# Altium footprint library FC.PcbLib: 20 footprints (part 1 of 2)
Each footprint in its own frame and in the unit in brackets; x right, y up, seen from the top. Pads: shape width x height; smd on the part's side, far side on the other; paste and mask are expansions set on the pad; w line width, h text height; cw(c..) or ccw(c..) is an arc to the next point about the centre after c.
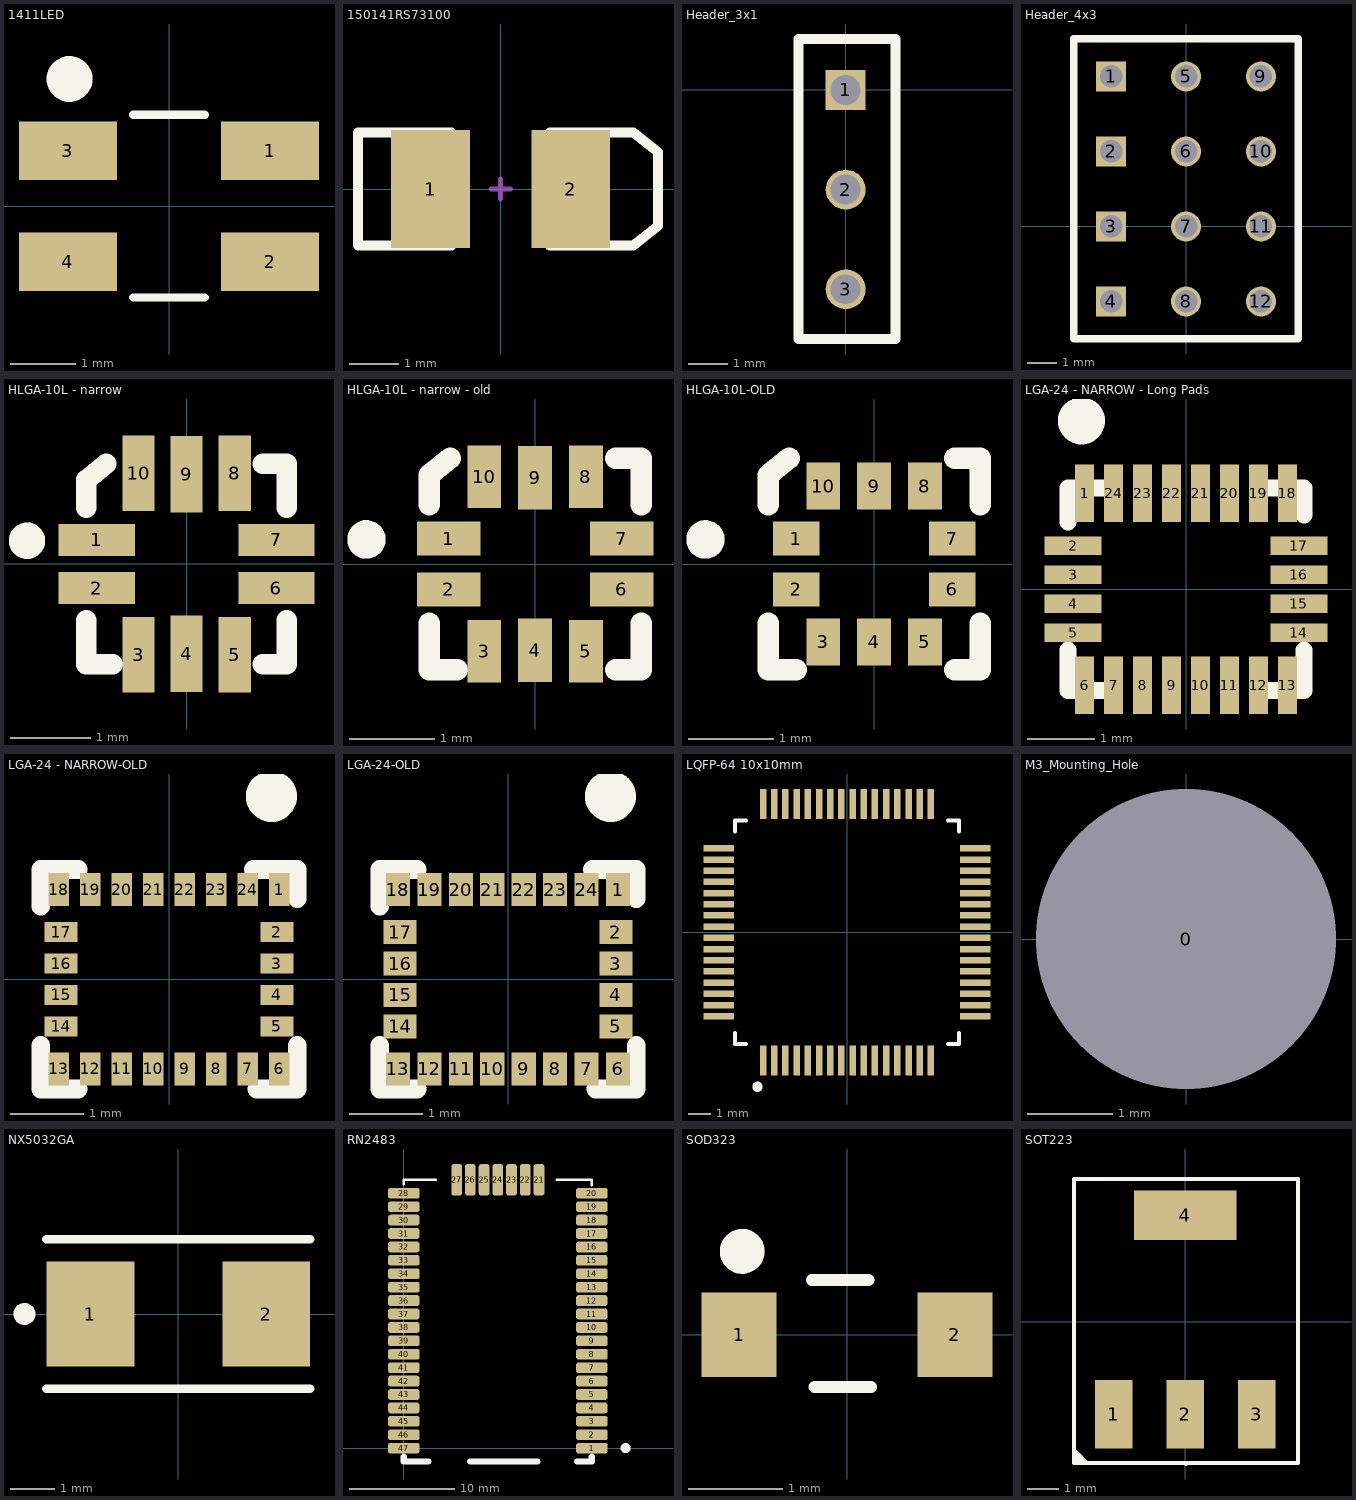
[diagram p0: the footprints below, top view; thin cyan lines are the x and y axes]

## 1411LED [mm]
pads (4):
  rect 1.5x0.9 smd: 1(1.55,0.85) 2(1.55,-0.85) 3(-1.55,0.85) 4(-1.55,-0.85)
Top Overlay:
  circle w0.35: c-1.525,1.95 r0.177
  lines w0.127: -0.55,-1.4 0.55,-1.4 ; -0.55,1.4 0.55,1.4
3D body "WL-SFTW_1411_LED3.stp": height 1.89, standoff -0.01, extent -1.75,-1.4 1.75,1.4

## 150141RS73100 [mm] "SMT LED; 1411"
height 1.6
pads (2):
  rect 1.6x2.4 smd: 1(-1.425,0) 2(1.425,0)
Top Overlay:
  lines w0.2: -1,-1.15 -2.9,-1.15 -2.9,1.15 -1,1.15 ; 1,-1.15 2.7,-1.15 3.2,-0.75 3.2,0.75 2.7,1.15 1,1.15
Mechanical 1:
  lines w0.1: -0.2,0 0.2,0 ; 0,-0.2 0,0.2
3D body "OVS5MRBCR4.STEP": height 1.6, standoff -0.05, extent -1.75,-1.4 1.75,1.4

## Header_3x1 [mil]
pads (3):
  rect 40x40 hole 30: 1(0,0)
  round 40 hole 30: 2(0,-100) 3(0,-200)
Top Overlay:
  lines w10: -47.24,-250 -47.24,51.18 50,51.18 50,-250 -47.24,-250

## Header_4x3 [mil]
pads (12):
  rect 40x40 hole 30: 1(-100,200) 2(-100,100) 3(-100,0) 4(-100,-100)
  round 40 hole 30: 5(0,200) 6(0,100) 7(0,0) 8(0,-100) 9(100,200) 10(100,100) 11(100,0) 12(100,-100)
Top Overlay:
  lines w10: -150,-150 150,-150 150,250 -150,250 -150,-150

## HLGA-10L - narrow [mm]
pads (10):
  rect 0.95x0.4 smd mask+0: 1(-1.12,0.3) 2(-1.12,-0.3) 6(1.12,-0.3) 7(1.12,0.3)
  rect 0.4x0.94 smd mask+0: 3(-0.6,-1.13) 5(0.6,-1.13) 8(0.6,1.13) 10(-0.6,1.13)
  rect 0.4x0.95 smd mask+0: 4(0,-1.12) 9(0,1.12)
Top Overlay:
  circle w0.254: c-1.99,0.29 r0.1
  lines w0.254: -1.25,-0.7 -1.25,-1.25 -0.92,-1.25 ; -1.25,0.7 -1.25,1.05 -1,1.25 ; 0.95,-1.25 1.25,-1.25 1.25,-0.7 ; 0.95,1.25 1.25,1.25 1.25,0.7
Top Solder:
  rectangle: -1.65,0.06 -0.6,0.54
  rectangle: -1.65,-0.54 -0.6,-0.06
  region: -0.36,-1.63 -0.36,-0.644 -0.84,-0.644 -0.84,-1.63
  region: 0.24,-1.628 0.24,-0.6 -0.24,-0.6 -0.24,-1.628
  region: 0.84,-1.63 0.84,-0.645 0.36,-0.645 0.36,-1.63
  region: 1.65,-0.06 0.6,-0.06 0.6,-0.54 1.65,-0.54
  region: 1.65,0.54 0.6,0.54 0.6,0.06 1.65,0.06
  region: 0.36,1.631 0.36,0.644 0.84,0.644 0.84,1.631
  region: -0.24,1.633 -0.24,0.6 0.24,0.6 0.24,1.633
  region: -0.36,0.643 -0.36,1.633 -0.84,1.633 -0.84,0.643
3D body: height 1, standoff 0.2, extent -1.25,-1.25 1.25,1.25

## HLGA-10L - narrow - old [mm]
pads (10):
  rect 0.75x0.4 smd mask+0: 1(-1.02,0.3) 2(-1.02,-0.3) 6(1.02,-0.3) 7(1.02,0.3)
  rect 0.4x0.74 smd mask+0: 3(-0.6,-1.03) 5(0.6,-1.03) 8(0.6,1.03) 10(-0.6,1.03)
  rect 0.4x0.75 smd mask+0: 4(0,-1.02) 9(0,1.02)
Top Overlay:
  circle w0.254: c-1.99,0.29 r0.1
  lines w0.254: -1.25,-0.7 -1.25,-1.25 -0.92,-1.25 ; -1.25,0.7 -1.25,1.05 -1,1.25 ; 0.95,-1.25 1.25,-1.25 1.25,-0.7 ; 0.95,1.25 1.25,1.25 1.25,0.7
Top Solder:
  region: -0.84,1.45 -0.84,0.643 -0.36,0.643 -0.36,1.45
  region: -0.24,1.45 -0.24,0.6 0.24,0.6 0.24,1.45
  region: 0.36,1.45 0.36,0.644 0.84,0.644 0.84,1.45
  region: 1.45,0.54 0.6,0.54 0.6,0.06 1.45,0.06
  region: 1.45,-0.06 0.6,-0.06 0.6,-0.54 1.45,-0.54
  region: 0.84,-1.45 0.84,-0.645 0.36,-0.645 0.36,-1.45
  region: 0.24,-1.45 0.24,-0.6 -0.24,-0.6 -0.24,-1.45
  region: -0.36,-1.45 -0.36,-0.644 -0.84,-0.644 -0.84,-1.45
  rectangle: -1.45,-0.54 -0.6,-0.06
  rectangle: -1.45,0.06 -0.6,0.54
3D body: height 1, standoff 0.2, extent -1.25,-1.25 1.25,1.25

## HLGA-10L-OLD [mm]
pads (10):
  rect 0.55x0.4 smd mask+0: 1(-0.92,0.3) 2(-0.92,-0.3) 6(0.92,-0.3) 7(0.92,0.3)
  rect 0.4x0.55 smd mask+0: 3(-0.6,-0.92) 4(0,-0.92) 5(0.6,-0.92) 8(0.6,0.92) 9(0,0.92) 10(-0.6,0.92)
Top Overlay:
  circle w0.254: c-1.99,0.29 r0.1
  lines w0.254: -1.25,-0.7 -1.25,-1.25 -0.92,-1.25 ; -1.25,0.7 -1.25,1.05 -1,1.25 ; 0.95,-1.25 1.25,-1.25 1.25,-0.7 ; 0.95,1.25 1.25,1.25 1.25,0.7
Top Solder:
  region: -0.84,1.45 -0.84,0.6 -0.36,0.6 -0.36,1.45
  region: -0.24,1.45 -0.24,0.6 0.24,0.6 0.24,1.45
  region: 0.36,1.45 0.36,0.6 0.84,0.6 0.84,1.45
  region: 1.45,0.54 0.6,0.54 0.6,0.06 1.45,0.06
  region: 1.45,-0.06 0.6,-0.06 0.6,-0.54 1.45,-0.54
  region: 0.84,-1.45 0.84,-0.6 0.36,-0.6 0.36,-1.45
  region: 0.24,-1.45 0.24,-0.6 -0.24,-0.6 -0.24,-1.45
  region: -0.36,-1.45 -0.36,-0.6 -0.84,-0.6 -0.84,-1.45
  rectangle: -1.45,-0.54 -0.6,-0.06
  rectangle: -1.45,0.06 -0.6,0.54
3D body: height 1, standoff 0.2, extent -1.25,-1.25 1.25,1.25

## LGA-24 - NARROW - Long Pads [mm]
pads (24):
  rect 0.278x0.85 smd mask+0: 1(-1.505,1.425) 6(-1.505,-1.425) 7(-1.075,-1.425) 8(-0.645,-1.425) 9(-0.215,-1.425) 10(0.215,-1.425) 11(0.645,-1.425) 12(1.075,-1.425) 13(1.505,-1.425) 18(1.505,1.425) 19(1.075,1.425) 20(0.645,1.425) 21(0.215,1.425) 22(-0.215,1.425) 23(-0.645,1.425) 24(-1.075,1.425)
  rect 0.85x0.278 smd mask+0: 2(-1.675,0.645) 3(-1.675,0.215) 4(-1.675,-0.215) 5(-1.675,-0.645) 14(1.675,-0.645) 15(1.675,-0.215) 16(1.675,0.215) 17(1.675,0.645)
Top Overlay:
  circle w0.5: c-1.55,2.5 r0.1
  lines w0.254: -1.75,-0.905 -1.75,-1.5 -1.239,-1.5 ; -1.75,1 -1.75,1.5 -1.24,1.5 ; 1.155,1.5 1.75,1.5 1.75,1.1 ; 1.2,-1.5 1.75,-1.5 1.75,-0.905
Top Solder:
  region: 2.205,-0.481 1.155,-0.481 1.155,-0.808 2.205,-0.808
  region: 2.205,-0.051 1.155,-0.051 1.155,-0.379 2.205,-0.379
  region: 2.205,0.81 1.155,0.81 1.155,0.481 2.205,0.481
  region: 2.205,0.378 1.155,0.378 1.155,0.051 2.205,0.051
  rectangle: -2.205,-0.81 -1.155,-0.481
  rectangle: -2.205,-0.379 -1.155,-0.051
  rectangle: -2.205,0.481 -1.155,0.809
  rectangle: -2.205,0.053 -1.155,0.379
  region: 1.341,1.95 1.341,0.912 1.67,0.912 1.67,1.95
  region: 0.911,1.95 0.911,0.914 1.236,0.914 1.236,1.95
  region: 0.484,1.95 0.484,0.905 0.807,0.905 0.807,1.95
  region: 0.051,1.95 0.051,0.905 0.379,0.905 0.379,1.95
  region: -1.341,0.917 -1.341,1.95 -1.67,1.95 -1.67,0.917
  region: -1.237,1.95 -1.237,0.92 -0.913,0.92 -0.913,1.95
  region: -0.81,1.95 -0.81,0.905 -0.48,0.905 -0.48,1.95
  region: -0.377,1.95 -0.377,0.905 -0.051,0.905 -0.051,1.95
  region: 1.67,-1.95 1.67,-0.912 1.341,-0.912 1.341,-1.95
  region: 1.238,-1.95 1.238,-0.913 0.91,-0.913 0.91,-1.95
  region: 0.808,-1.95 0.808,-0.905 0.481,-0.905 0.481,-1.95
  region: 0.378,-1.95 0.378,-0.905 0.051,-0.905 0.051,-1.95
  region: -1.342,-1.95 -1.342,-0.913 -1.669,-0.913 -1.669,-1.95
  region: -0.912,-1.95 -0.912,-0.912 -1.239,-0.912 -1.239,-1.95
  region: -0.48,-1.95 -0.48,-0.905 -0.81,-0.905 -0.81,-1.95
  region: -0.051,-1.95 -0.051,-0.905 -0.378,-0.905 -0.378,-1.95
3D body: height 1, standoff 0.13, extent -1.75,-1.5 1.75,1.5

## LGA-24 - NARROW-OLD [mm]
pads (24):
  rect 0.278x0.45 smd mask+0: 1(1.505,1.225) 6(1.505,-1.225) 7(1.075,-1.225) 8(0.645,-1.225) 9(0.215,-1.225) 10(-0.215,-1.225) 11(-0.645,-1.225) 12(-1.075,-1.225) 13(-1.505,-1.225) 18(-1.505,1.225) 19(-1.075,1.225) 20(-0.645,1.225) 21(-0.215,1.225) 22(0.215,1.225) 23(0.645,1.225) 24(1.075,1.225)
  rect 0.45x0.278 smd mask+0: 2(1.475,0.645) 3(1.475,0.215) 4(1.475,-0.215) 5(1.475,-0.645) 14(-1.475,-0.645) 15(-1.475,-0.215) 16(-1.475,0.215) 17(-1.475,0.645)
Top Overlay:
  circle w0.5: c1.4,2.5 r0.1
  lines w0.254: -1.75,-0.905 -1.75,-1.5 -1.239,-1.5 ; -1.75,1 -1.75,1.5 -1.24,1.5 ; 1.155,1.5 1.75,1.5 1.75,1.1 ; 1.2,-1.5 1.75,-1.5 1.75,-0.905
Top Solder:
  region: -0.051,-1.755 -0.051,-0.905 -0.378,-0.905 -0.378,-1.755
  region: -0.48,-1.755 -0.48,-0.905 -0.809,-0.905 -0.809,-1.755
  region: -0.912,-1.755 -0.912,-0.912 -1.239,-0.912 -1.239,-1.755
  region: -1.342,-1.755 -1.342,-0.913 -1.67,-0.913 -1.67,-1.755
  region: 0.378,-1.755 0.378,-0.905 0.051,-0.905 0.051,-1.755
  region: 0.808,-1.755 0.808,-0.905 0.481,-0.905 0.481,-1.755
  region: 1.238,-1.755 1.238,-0.913 0.91,-0.913 0.91,-1.755
  region: 1.67,-1.755 1.67,-0.912 1.341,-0.912 1.341,-1.755
  region: -0.377,1.755 -0.377,0.905 -0.051,0.905 -0.051,1.755
  region: -0.81,1.755 -0.81,0.905 -0.48,0.905 -0.48,1.755
  region: -1.237,1.755 -1.237,0.92 -0.913,0.92 -0.913,1.755
  region: -1.67,1.755 -1.67,0.917 -1.341,0.917 -1.341,1.755
  region: 0.051,1.755 0.051,0.905 0.379,0.905 0.379,1.755
  region: 0.484,1.755 0.484,0.905 0.807,0.905 0.807,1.755
  region: 0.911,1.755 0.911,0.914 1.236,0.914 1.236,1.755
  region: 1.34,1.755 1.34,0.912 1.67,0.912 1.67,1.755
  rectangle: -2.005,0.053 -1.155,0.379
  rectangle: -2.005,0.481 -1.155,0.809
  rectangle: -2.005,-0.379 -1.155,-0.051
  rectangle: -2.005,-0.81 -1.155,-0.481
  region: 2.005,0.378 1.155,0.378 1.155,0.051 2.005,0.051
  region: 2.005,0.81 1.155,0.81 1.155,0.481 2.005,0.481
  region: 2.005,-0.051 1.155,-0.051 1.155,-0.379 2.005,-0.379
  region: 2.005,-0.481 1.155,-0.481 1.155,-0.808 2.005,-0.808
3D body: height 1, standoff 0.13, extent -1.75,-1.5 1.75,1.5

## LGA-24-OLD [mm]
pads (24):
  rect 0.329x0.45 smd mask+0: 1(1.505,1.225) 6(1.505,-1.225) 7(1.075,-1.225) 8(0.645,-1.225) 9(0.215,-1.225) 10(-0.215,-1.225) 11(-0.645,-1.225) 12(-1.075,-1.225) 13(-1.505,-1.225) 18(-1.505,1.225) 19(-1.075,1.225) 20(-0.645,1.225) 21(-0.215,1.225) 22(0.215,1.225) 23(0.645,1.225) 24(1.075,1.225)
  rect 0.45x0.329 smd mask+0: 2(1.475,0.645) 3(1.475,0.215) 4(1.475,-0.215) 5(1.475,-0.645) 14(-1.475,-0.645) 15(-1.475,-0.215) 16(-1.475,0.215) 17(-1.475,0.645)
Top Overlay:
  circle w0.5: c1.4,2.5 r0.1
  lines w0.254: -1.75,-0.905 -1.75,-1.5 -1.239,-1.5 ; -1.75,1 -1.75,1.5 -1.24,1.5 ; 1.155,1.5 1.75,1.5 1.75,1.1 ; 1.2,-1.5 1.75,-1.5 1.75,-0.905
Top Solder:
  region: -0.05,-1.755 -0.05,-0.905 -0.379,-0.905 -0.379,-1.755
  region: -0.48,-1.755 -0.48,-0.905 -0.809,-0.905 -0.809,-1.755
  region: -0.91,-1.755 -0.91,-0.905 -1.239,-0.905 -1.239,-1.755
  region: -1.34,-1.755 -1.34,-0.905 -1.669,-0.905 -1.669,-1.755
  region: 0.38,-1.755 0.38,-0.905 0.051,-0.905 0.051,-1.755
  region: 0.81,-1.755 0.81,-0.905 0.481,-0.905 0.481,-1.755
  region: 1.24,-1.755 1.24,-0.905 0.911,-0.905 0.911,-1.755
  region: 1.67,-1.755 1.67,-0.905 1.341,-0.905 1.341,-1.755
  region: -0.38,1.755 -0.38,0.905 -0.051,0.905 -0.051,1.755
  region: -0.81,1.755 -0.81,0.905 -0.481,0.905 -0.481,1.755
  region: -1.24,1.755 -1.24,0.905 -0.911,0.905 -0.911,1.755
  region: -1.67,1.755 -1.67,0.905 -1.341,0.905 -1.341,1.755
  region: 0.05,1.755 0.05,0.905 0.379,0.905 0.379,1.755
  region: 0.48,1.755 0.48,0.905 0.809,0.905 0.809,1.755
  region: 0.91,1.755 0.91,0.905 1.239,0.905 1.239,1.755
  region: 1.34,1.755 1.34,0.905 1.669,0.905 1.669,1.755
  rectangle: -2.005,0.05 -1.155,0.379
  rectangle: -2.005,0.48 -1.155,0.809
  rectangle: -2.005,-0.38 -1.155,-0.051
  rectangle: -2.005,-0.81 -1.155,-0.481
  region: 2.005,0.38 1.155,0.38 1.155,0.051 2.005,0.051
  region: 2.005,0.81 1.155,0.81 1.155,0.481 2.005,0.481
  region: 2.005,-0.05 1.155,-0.05 1.155,-0.379 2.005,-0.379
  region: 2.005,-0.48 1.155,-0.48 1.155,-0.809 2.005,-0.809
3D body: height 1, standoff 0.13, extent -1.75,-1.5 1.75,1.5

## LQFP-64 10x10mm [mm] "LQFP-64 10x10mm 0.5mm pitch"
pads (64):
  rect 0.29x1.35 smd mask+0.054: 1(-3.75,-5.725) 2(-3.25,-5.725) 3(-2.75,-5.725) 4(-2.25,-5.725) 5(-1.75,-5.725) 6(-1.25,-5.725) 7(-0.75,-5.725) 8(-0.25,-5.725) 9(0.25,-5.725) 10(0.75,-5.725) 11(1.25,-5.725) 12(1.75,-5.725) 13(2.25,-5.725) 14(2.75,-5.725) 15(3.25,-5.725) 16(3.75,-5.725) 33(3.75,5.725) 34(3.25,5.725) 35(2.75,5.725) 36(2.25,5.725) 37(1.75,5.725) 38(1.25,5.725) 39(0.75,5.725) 40(0.25,5.725) 41(-0.25,5.725) 42(-0.75,5.725) 43(-1.25,5.725) 44(-1.75,5.725) 45(-2.25,5.725) 46(-2.75,5.725) 47(-3.25,5.725) 48(-3.75,5.725)
  rect 1.35x0.29 smd mask+0.054: 17(5.725,-3.75) 18(5.725,-3.25) 19(5.725,-2.75) 20(5.725,-2.25) 21(5.725,-1.75) 22(5.725,-1.25) 23(5.725,-0.75) 24(5.725,-0.25) 25(5.725,0.25) 26(5.725,0.75) 27(5.725,1.25) 28(5.725,1.75) 29(5.725,2.25) 30(5.725,2.75) 31(5.725,3.25) 32(5.725,3.75) 49(-5.725,3.75) 50(-5.725,3.25) 51(-5.725,2.75) 52(-5.725,2.25) 53(-5.725,1.75) 54(-5.725,1.25) 55(-5.725,0.75) 56(-5.725,0.25) 57(-5.725,-0.25) 58(-5.725,-0.75) 59(-5.725,-1.25) 60(-5.725,-1.75) 61(-5.725,-2.25) 62(-5.725,-2.75) 63(-5.725,-3.25) 64(-5.725,-3.75)
Top Overlay:
  circle w0.254: c-4,-6.9 r0.1
  lines w0.178: -5,-4.5 -5,-5 -4.5,-5 ; -5,4.5 -5,5 -4.5,5 ; 4.5,-5 5,-5 5,-4.5 ; 4.5,5 5,5 5,4.5
3D body "User Library-LQFP64-1.STEP": height 1.55, standoff -0.01, extent -6,-6 6,6

## M3_Mounting_Hole [mm]
pads (1):
  round 1 hole 3.5 unplated mask+0: 0(0,0)
3D body: height 3, standoff 0, extent -3,-3 3,3
3D body: height 0, standoff -8, extent -1.488,-1.497 1.5,1.497

## NX5032GA [mm] "NX5032GA Crystal Oscillator"
height 1.3
pads (2):
  rect 2x2.4 smd: 1(-2,0) 2(2,0)
Top Overlay:
  circle w0.25: c-3.5,0 r0.125
  lines w0.2: -3,-1.7 3,-1.7 ; -3,1.7 3,1.7
3D body "NX5032GA.STEP": height 1.3, standoff -0.01, extent -2.51,-1.6 2.51,1.6

## RN2483 [mm]
pads (47):
  rrect50% 3x1.016 smd: 1(17.8,0) 2(17.8,1.27) 3(17.8,2.54) 4(17.8,3.81) 5(17.8,5.08) 6(17.8,6.35) 7(17.8,7.62) 8(17.8,8.89) 9(17.8,10.16) 10(17.8,11.43) 11(17.8,12.7) 12(17.8,13.97) 13(17.8,15.24) 14(17.8,16.51) 15(17.8,17.78) 16(17.8,19.05) 17(17.8,20.32) 18(17.8,21.59) 19(17.8,22.86) 20(17.8,24.13) 28(0,24.13) 29(0,22.86) 30(0,21.59) 31(0,20.32) 32(0,19.05) 33(0,17.78) 34(0,16.51) 35(0,15.24) 36(0,13.97) 37(0,12.7) 38(0,11.43) 39(0,10.16) 40(0,8.89) 41(0,7.62) 42(0,6.35) 43(0,5.08) 44(0,3.81) 45(0,2.54) 46(0,1.27) 47(0,0)
  rrect50% 1.016x3 smd: 21(12.8,25.4) 22(11.5,25.4) 23(10.2,25.4) 24(8.9,25.4) 25(7.6,25.4) 26(6.3,25.4) 27(5,25.4)
Top Overlay:
  circle w0.5: c21,0 r0.224
  lines w0.254: 0,25 0,25.4 3,25.4 ; 14.5,25.4 17.8,25.4 17.8,24.9
  lines w0.6: 0,-0.8 0,-1.27 2.3,-1.27 ; 6.3,-1.27 12.65,-1.27 ; 16.4,-1.27 17.8,-1.27 17.8,-0.8
3D body: height 3.1, standoff 0.1, extent 0,-1.27 17.8,25.4

## SOD323 [mm]
pads (2):
  rect 0.8x0.9 smd: 1(-1.15,0) 2(1.15,0)
Top Overlay:
  circle w0.254: c-1.118,0.889 r0.112
  lines w0.127: -0.371,0.584 0.229,0.584 ; -0.346,-0.559 0.254,-0.559
3D body "SSMini2-F5-B.stp": height 0.66, standoff 0, extent -0.826,-0.419 0.825,0.419

## SOT223 [mm]
pads (4):
  rect 1.2x2.2 smd: 1(-2.3,-2.975) 2(0,-2.975) 3(2.3,-2.975)
  rect 3.3x1.6 smd: 4(0,3.425)
Top Overlay:
  lines w0.127: -3.581,-4.114 -3.175,-4.521 -3.277,-4.521 -3.302,-4.521 -3.581,-4.241 -3.581,-4.368 -3.429,-4.521 -3.404,-4.521 ; 0,4.598 3.632,4.598 3.632,-4.546 0.025,-4.546 ; 0.051,4.598 -3.581,4.598 -3.581,-4.546 0.025,-4.546 ; 0.025,-4.546 0.025,-4.571 0.025,-4.546
3D body: height 1.27, standoff 0, extent -3.327,-1.654 3.429,2.639
3D body: height 1.3, standoff 1.27, extent -3.15,-1.476 -2.644,-0.969
3D body: height 0.51, standoff 0, extent -1.55,2.638 1.525,3.858
3D body: height 0.22, standoff 0, extent -2.808,-2.929 -1.792,-2.319
3D body: height 0.62, standoff 0, extent -2.808,-2.319 -1.792,-2.091
3D body: height 0.62, standoff 0.4, extent -2.808,-2.091 -1.792,-1.659
3D body: height 0.62, standoff 0.4, extent -0.508,-2.086 0.508,-1.654
3D body: height 0.62, standoff 0, extent -0.508,-2.314 0.508,-2.086
3D body: height 0.22, standoff 0, extent -0.508,-2.924 0.508,-2.314
3D body: height 0.62, standoff 0.4, extent 1.792,-2.082 2.808,-1.65
3D body: height 0.62, standoff 0, extent 1.792,-2.31 2.808,-2.082
3D body: height 0.22, standoff 0, extent 1.792,-2.92 2.808,-2.31